# Altium footprint library 2440PCBV5.PcbLib: 136 footprints (part 5 of 9)
Each footprint in its own frame and in the unit in brackets; x right, y up, seen from the top. Pads: shape width x height; smd on the part's side, far side on the other; paste and mask are expansions set on the pad; w line width, h text height; cw(c..) or ccw(c..) is an arc to the next point about the centre after c.
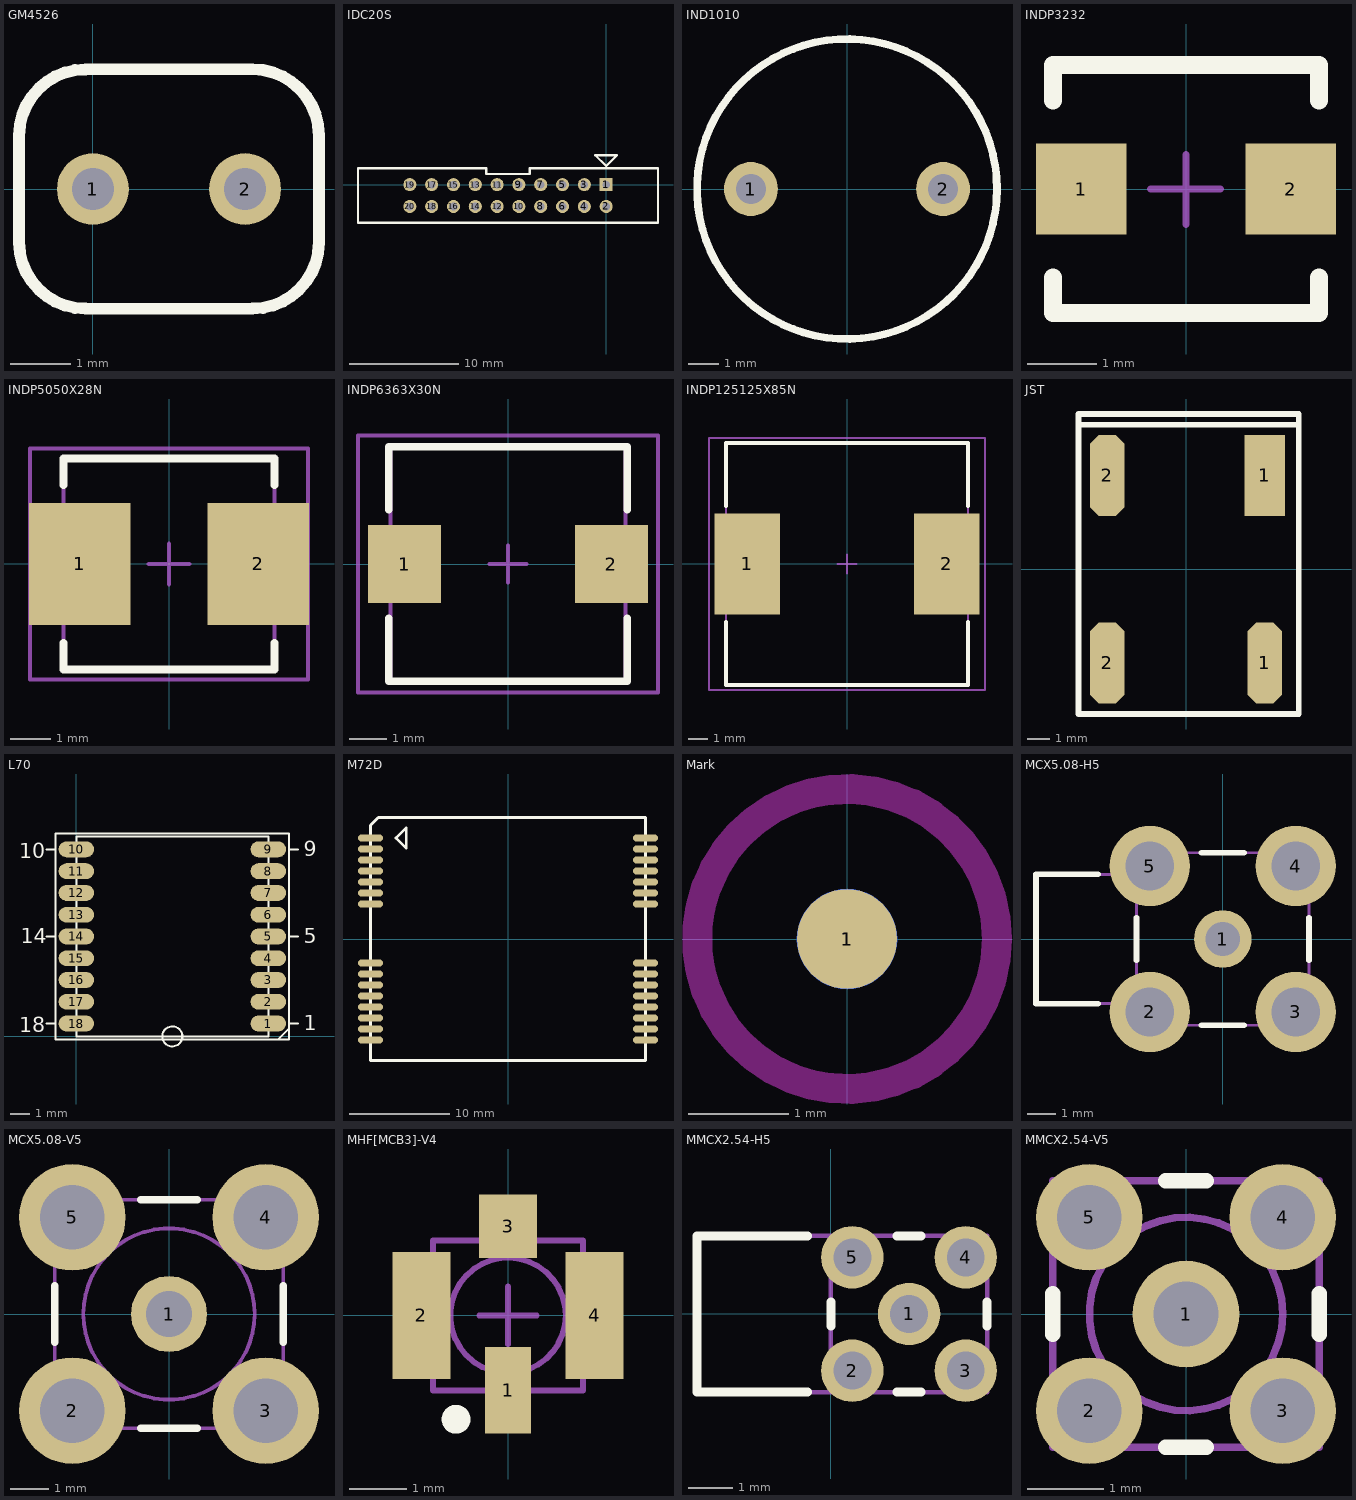
[diagram p4: the footprints below, top view; thin cyan lines are the x and y axes]

## GM4526 [mm]
pads (2):
  round 1.2 hole 0.7: 1(0,0) 2(2.54,0)
Top Overlay:
  lines w0.2: -0.127,-2 2.667,-2 ; -0.127,-1.997 cw(c-0.127,-0.889) -1.235,-0.889 -1.235,0.889 cw(c-0.127,0.889) -0.127,1.997 ; -0.127,2 2.667,2 cw(c2.667,0.892) 3.775,0.892 3.775,-0.889 cw(c2.667,-0.889) 2.667,-1.997

## IDC20S [mm]
pads (20):
  rect 1.2x1.2 hole 0.7: 1(0.002,0.017)
  round 1.2 hole 0.7: 2(0.002,-1.983) 3(-1.998,0.017) 4(-1.998,-1.983) 5(-3.998,0.017) 6(-3.998,-1.983) 7(-5.998,0.017) 8(-5.998,-1.983) 9(-7.998,0.017) 10(-7.998,-1.983) 11(-9.998,0.017) 12(-9.998,-1.983) 13(-11.998,0.017) 14(-11.998,-1.983) 15(-13.998,0.017) 16(-13.998,-1.983) 17(-15.998,0.017) 18(-15.998,-1.983) 19(-17.998,0.017) 20(-17.998,-1.983)
Top Overlay:
  lines w0.2: -22.748,-3.483 -22.748,1.517 -10.998,1.517 -10.998,0.992 -6.998,0.992 -6.998,1.517 4.752,1.517 4.752,-3.483 -22.748,-3.483 ; -0.998,2.717 0.002,1.717 1.002,2.717 -0.998,2.717
3D body: height 0, standoff 0, extent -18.856,-2.841 0.86,0.875

## IND1010 [mm]
pads (2):
  round 1.8 hole 1: 1(-3.201,0) 2(3.202,0)
Top Overlay:
  circle w0.254: c0,0 r5
3D body: height 13.5, standoff 3.5, extent -5.01,-5.01 5.01,5.01

## INDP3232 [mm]
height 12
pads (2):
  rect 1.3x1.3 smd: 1(-1.5,0) 2(1.5,0)
Top Overlay:
  lines w0.254: -1.905,-1.27 -1.905,-1.778 1.905,-1.778 1.905,-1.27 ; -1.905,1.27 -1.905,1.778 1.905,1.778 1.905,1.27
Mechanical 15:
  lines w0.1: -0.508,0 0.492,0 ; 0,-0.508 0,0.492
3D body: height 2, standoff 0, extent -2.152,-2.176 2.2,2.176

## INDP5050X28N [mm]
pads (2):
  rect 2.5x3 smd: 1(-2.2,0) 2(2.2,0)
Top Overlay:
  lines w0.2: -2.6,-1.95 -2.6,-2.6 2.6,-2.6 2.6,-1.95 ; -2.6,1.95 -2.6,2.6 2.6,2.6 2.6,1.95
Mechanical 13:
  lines w0.1: -2.6,-2.6 -2.6,2.6 2.6,2.6 2.6,-2.6 -2.6,-2.6
Mechanical 15:
  lines w0.1: -0.5,0 0.5,0 ; 0,-0.5 0,0.5 ; -3.425,-2.85 -3.425,2.85 3.425,2.85 3.425,-2.85 -3.425,-2.85
3D body: height 2, standoff 0, extent -1.565,-1.533 1.512,1.544

## INDP6363X30N [mm] "Precision Wire Wound Inductor, 2-Leads, Body 6.3x6.3mm, IPC Medium Density"
height 3
pads (2):
  rect 1.95x2.1 smd: 1(-2.775,0) 2(2.775,0)
Top Overlay:
  lines w0.2: -3.2,-1.45 -3.2,-3.15 3.2,-3.15 3.2,-1.45 ; -3.2,1.45 -3.2,3.15 3.2,3.15 3.2,1.45
Mechanical 13:
  lines w0.1: -3.15,-3.15 3.15,-3.15 3.15,3.15 -3.15,3.15 -3.15,-3.15
Mechanical 15:
  lines w0.1: -0.5,0 0.5,0 ; 0,-0.5 0,0.5 ; -4.025,-3.45 4.025,-3.45 4.025,3.45 -4.025,3.45 -4.025,-3.45
3D body: height 3, standoff 0, extent -3.15,-3.15 3.15,3.15

## INDP125125X85N [mm]
pads (2):
  rect 3.4x5.2 smd: 1(-5.15,0) 2(5.15,0)
Top Overlay:
  lines w0.2: -6.25,-3 -6.25,-6.25 6.25,-6.25 6.25,-3 ; -6.25,3 -6.25,6.25 6.25,6.25 6.25,3
Mechanical 13:
  lines w0.1: -6.25,-6.25 -6.25,6.25 6.25,6.25 6.25,-6.25 -6.25,-6.25
Mechanical 15:
  lines w0.1: -0.5,0 0.5,0 ; 0,-0.5 0,0.5 ; -7.125,-6.5 -7.125,6.5 7.125,6.5 7.125,-6.5 -7.125,-6.5
3D body: height 5.5, standoff -0.64, extent -6.114,-6.13 6.186,6.17

## JST [mm]
pads (4):
  oct 1.524x3.6 smd: 1(3.5,-4.161) 2(-3.5,-4.161) 2(-3.5,4.161)
  rect 1.8x3.6 smd: 1(3.5,4.161)
Top Overlay:
  lines w0.254: -4.751,6.406 4.999,6.406 ; 4.952,-6.425 -4.769,-6.425 -4.769,6.889 4.952,6.889 ; 4.999,-6.425 4.999,6.889
3D body: height 1.27, standoff 0, extent -4.845,-6.407 4.992,6.953

## L70 [mm]
pads (18):
  oval 1.8x0.8 smd: 1(9.7,0.65) 2(9.7,1.75) 3(9.7,2.85) 4(9.7,3.95) 5(9.7,5.05) 6(9.7,6.15) 7(9.7,7.25) 8(9.7,8.35) 9(9.7,9.45) 10(0,9.45) 11(0,8.35) 12(0,7.25) 13(0,6.15) 14(0,5.05) 15(0,3.95) 16(0,2.85) 17(0,1.75) 18(0,0.65)
Top Overlay:
  circle w0.102: c4.85,0 r0.508
  lines w0.102: -1.5,0.65 -1.05,0.65 ; -1.5,5.05 -1.05,5.05 ; -1.5,9.45 -1.05,9.45 ; 10.2,-0.15 10.75,0.4 ; 10.75,0.65 11.2,0.65 ; 10.75,5.05 11.2,5.05 ; 10.75,9.45 11.2,9.45 ; -1.05,-0.15 10.75,-0.15 10.75,10.25 -1.05,10.25 -1.05,-0.15 ; 0,0 9.7,0 9.7,10.1 0,10.1 0,0
  text "1" at 11.5,0.3 h0.76
  text "5" at 11.5,4.7 h0.76
  text "9" at 11.5,9.1 h0.76
  text "10" at -2.9,9 h0.76
  text "14" at -2.8,4.7 h0.76
  text "18" at -2.9,0.2 h0.76

## M72D [mm]
pads (30):
  oval 2.5x0.7 smd: 1(-13.75,10.1) 2(-13.75,9) 3(-13.75,7.9) 4(-13.75,6.8) 5(-13.75,5.7) 6(-13.75,4.6) 7(-13.75,3.5) 8(-13.75,-2.4) 9(-13.75,-3.5) 10(-13.75,-4.6) 11(-13.75,-5.7) 12(-13.75,-6.8) 13(-13.75,-7.9) 14(-13.75,-9) 15(-13.75,-10.1) 16(13.75,-10.1) 17(13.75,-9) 18(13.75,-7.9) 19(13.75,-6.8) 20(13.75,-5.7) 21(13.75,-4.6) 22(13.75,-3.5) 23(13.75,-2.4) 24(13.75,3.5) 25(13.75,4.6) 26(13.75,5.7) 27(13.75,6.8) 28(13.75,7.9) 29(13.75,9) 30(13.75,10.1)
Top Overlay:
  lines w0.254: -11.21,10.1 -10.194,11.116 -10.194,9.084 -11.21,10.1
  lines w0.3: -13.75,-12.15 -13.75,11.37 -12.97,12.15 -12.843,12.15 13.75,12.15 13.75,-12.15 -13.75,-12.15

## Mark [mm]
height 0.55
pads (2):
  round 1 smd paste+0 mask+1: 1(0,0)
  round 1 smd far side paste+0 mask+1: 1(0,0)
Keep-Out Layer:
  circle w0.3: c0,0 r1.5

## MCX5.08-H5 [mm] "Connector; RF Coaxial, MCX, Thru-Hole; 5 Position; Right Angle"
height 5.99
pads (5):
  round 2 hole 1.2: 1(0,0)
  round 2.8 hole 1.7: 2(-2.54,-2.54) 3(2.54,-2.54) 4(2.54,2.54) 5(-2.54,2.54)
Top Overlay:
  lines w0.2: -4.34,-2.25 -6.5,-2.25 -6.5,2.25 -4.34,2.25 ; -3,-0.74 -3,0.74 ; -0.74,-3 0.74,-3 ; -0.74,3 0.74,3 ; 3,-0.74 3,0.74
Mechanical 13:
  lines w0.1: -3,-2.25 -6.5,-2.25 -6.5,2.25 -3,2.25 ; -3,-3 3,-3 3,3 -3,3 -3,-3
3D body: height 5.25, standoff 0.76, extent -6.499,-2.249 -2.999,2.242
3D body: height 5.99, standoff 0, extent -2.999,-2.999 2.999,2.999

## MCX5.08-V5 [mm] "Connector; RF Coaxial, MCX, Thru-Hole; 5 Position; Vertical"
height 5.75
pads (5):
  round 2 hole 1.2: 1(0,0)
  round 2.8 hole 1.7: 2(-2.54,-2.54) 3(2.54,-2.54) 4(2.54,2.54) 5(-2.54,2.54)
Top Overlay:
  lines w0.2: -3,-0.74 -3,0.74 ; -0.74,-3 0.74,-3 ; -0.74,3 0.74,3 ; 3,-0.74 3,0.74
Mechanical 13:
  circle w0.1: c0,0 r2.25
  lines w0.1: -3,-3 -3,3 3,3 3,-3 -3,-3
3D body: height 1.6, standoff 0, extent -3,-3 3,3
3D body: height 5.75, standoff 1.6, extent -2.26,-2.26 2.26,2.26

## MHF[MCB3]-V4 [mm] "Connector; RF Coaxial, MCB SM; 4 Position; Vertical, Body 3.1x3.0mm (LxW)"
height 1.3
pads (4):
  rect 0.8x1.5 smd: 1(0,-1.3)
  rect 1x2.2 smd: 2(-1.5,0) 4(1.5,0)
  rect 1x1.1 smd: 3(0,1.55)
Top Overlay:
  circle w0.25: c-0.9,-1.8 r0.125
Mechanical 13:
  circle w0.1: c0,0 r1
  lines w0.1: -1.3,-1.3 1.3,-1.3 1.3,1.3 -1.3,1.3 -1.3,-1.3
Mechanical 15:
  lines w0.1: -0.5,0 0.5,0 ; 0,-0.5 0,0.5
3D body: height 1.3, standoff 0.35, extent -1.008,-1.008 1.008,1.008
3D body: height 0.35, standoff 0, extent -1.299,-1.299 1.299,1.299

## MMCX2.54-H5 [mm] "Connector; RF Coaxial, MMCX, Thru-Hole; 5 Position; Right Angle"
height 3.8
pads (5):
  round 1.4 hole 0.85: 1(1.75,0) 2(0.48,-1.27) 3(3.02,-1.27) 4(3.02,1.27) 5(0.48,1.27)
Top Overlay:
  lines w0.2: -0.52,-1.75 -3,-1.75 -3,1.75 -0.52,1.75 ; 0,-0.27 0,0.27 ; 1.48,-1.75 2.02,-1.75 ; 1.48,1.75 2.02,1.75 ; 3.5,-0.27 3.5,0.27
Mechanical 13:
  lines w0.1: 0,-1.75 0,1.75 ; -3,-1.75 -3,1.75 3.5,1.75 3.5,-1.75 -3,-1.75
3D body: height 3.81, standoff 0.32, extent -3,-1.747 0,1.747
3D body: height 3.8, standoff 0, extent 0,-1.749 3.499,1.749

## MMCX2.54-V5 [mm] "Connector; RF Coaxial, MMCX, Thru-Hole; 5 Position; Vertical"
height 4.45
pads (5):
  round 1.4 hole 0.85: 1(0,0) 2(-1.27,-1.27) 3(1.27,-1.27) 4(1.27,1.27) 5(-1.27,1.27)
Top Overlay:
  lines w0.2: -1.75,-0.27 -1.75,0.27 ; -0.27,-1.75 0.27,-1.75 ; -0.27,1.75 0.27,1.75 ; 1.75,-0.27 1.75,0.27
Mechanical 13:
  circle w0.1: c0,0 r1.27
  lines w0.1: -1.75,-1.75 -1.75,1.75 1.75,1.75 1.75,-1.75 -1.75,-1.75
3D body: height 1.65, standoff 0, extent -1.75,-1.75 1.75,1.75
3D body: height 4.45, standoff 1.65, extent -1.28,-1.28 1.28,1.28